# Altium footprint library BD9D300MUV-E2.PcbLib: 3 footprints
Each footprint in its own frame and in the unit in brackets; x right, y up, seen from the top. Pads: shape width x height; smd on the part's side, far side on the other; paste and mask are expansions set on the pad; w line width, h text height; cw(c..) or ccw(c..) is an arc to the next point about the centre after c.
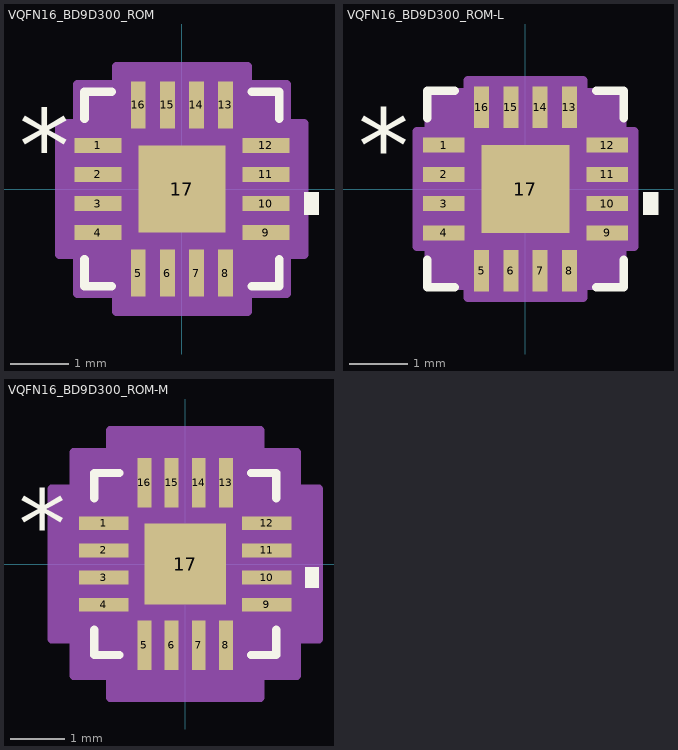
[diagram p0: the footprints below, top view; thin cyan lines are the x and y axes]

## VQFN16_BD9D300_ROM [mil]
pads (17):
  rect 32x10 smd paste+0 mask+0: 1(-57,29.54) 2(-57,9.85) 3(-57,-9.85) 4(-57,-29.54) 9(57,-29.54) 10(57,-9.85) 11(57,9.85) 12(57,29.54)
  rect 10x32 smd paste+0 mask+0: 5(-29.54,-57) 6(-9.85,-57) 7(9.85,-57) 8(29.54,-57) 13(29.54,57) 14(9.85,57) 15(-9.85,57) 16(-29.54,57)
  rect 59x59 smd paste+0 mask+0: 17(0,0)
Top Overlay:
  region: 83,-2.35 93,-2.35 93,-17.34 83,-17.34
  lines w6: -66,-47.63 -66,-66 -47.63,-66 ; -66,47.63 -66,66 -47.63,66 ; 47.63,-66 66,-66 66,-47.63 ; 47.63,66 66,66 66,47.63
  text "*" at -110.5,4.54 h50
Mechanical 13:
  lines w1: -61,11 -11,61 ; -61,-35.53 -61,-23.54 ; -61,-35.53 -61,-23.54 ; -61,-35.53 -61,-35.53 ; -61,-23.54 -61,-23.54 ; -61,-15.85 -61,-3.85 ; -61,-15.85 -61,-3.85 ; -61,-15.85 -61,-15.85 ; -61,-3.85 -61,-3.85 ; -61,3.85 -61,15.85 ; -61,3.85 -61,15.85 ; -61,3.85 -61,3.85 ; -61,15.85 -61,15.85 ; -61,23.54 -61,35.53 ; -61,23.54 -61,35.53 ; -61,23.54 -61,23.54 ; -61,35.53 -61,35.53 ; -35.53,-61 -23.54,-61 ; -35.53,-61 -35.53,-61 ; -35.53,-61 -23.54,-61 ; -35.53,61 -23.54,61 ; -35.53,61 -23.54,61 ; -35.53,61 -35.53,61 ; -23.54,-61 -23.54,-61 ; -23.54,61 -23.54,61 ; -15.85,-61 -3.85,-61 ; -15.85,-61 -15.85,-61 ; -15.85,-61 -3.85,-61 ; -15.85,61 -3.85,61 ; -15.85,61 -3.85,61 ; -15.85,61 -15.85,61 ; -3.85,-61 -3.85,-61 ; -3.85,61 -3.85,61 ; 3.85,-61 15.85,-61 ; 3.85,-61 3.85,-61 ; 3.85,-61 15.85,-61 ; 3.85,61 15.85,61 ; 3.85,61 15.85,61 ; 3.85,61 3.85,61 ; 15.85,-61 15.85,-61 ; 15.85,61 15.85,61 ; 23.54,-61 35.53,-61 ; 23.54,-61 23.54,-61 ; 23.54,-61 35.53,-61 ; 23.54,61 35.53,61 ; 23.54,61 35.53,61 ; 23.54,61 23.54,61 ; 35.53,-61 35.53,-61 ; 35.53,61 35.53,61 ; 61,-35.53 61,-23.54 ; 61,-35.53 61,-35.53 ; 61,-35.53 61,-23.54 ; 61,-23.54 61,-23.54 ; 61,-15.85 61,-3.85 ; 61,-15.85 61,-15.85 ; 61,-15.85 61,-3.85 ; 61,-3.85 61,-3.85 ; 61,3.85 61,15.85 ; 61,3.85 61,3.85 ; 61,3.85 61,15.85 ; 61,15.85 61,15.85 ; 61,23.54 61,35.53 ; 61,23.54 61,23.54 ; 61,23.54 61,35.53 ; 61,35.53 61,35.53 ; -61,-61 61,-61 61,61 -61,61 -61,-61
  text "*" at -28.5,4.54 h50
Mechanical 15:
  region: -44.53,-71 -71,-71 -71,-44.53 -83,-44.53 -83,44.53 -71,44.53 -71,71 -44.53,71 -44.53,83 44.53,83 44.53,71 71,71 71,44.53 83,44.53 83,-44.53 71,-44.53 71,-71 44.53,-71 44.53,-83 -44.53,-83
  lines w6: -83,-44.53 -71,-44.53 -71,-71 -44.53,-71 -44.53,-83 44.53,-83 44.53,-71 71,-71 71,-44.53 83,-44.53 83,44.53 71,44.53 71,71 44.53,71 44.53,83 -44.53,83 -44.53,71 -71,71 -71,44.53 -83,44.53 -83,-44.53
3D body "VQFN16_BD9D300_ROM.step": height 39.09, standoff 0, extent -60.98,-60.98 60.98,60.98

## VQFN16_BD9D300_ROM-L [mil]
pads (17):
  rect 28x10 smd paste+0 mask+0: 1(-55,29.54) 2(-55,9.85) 3(-55,-9.85) 4(-55,-29.54) 9(55,-29.54) 10(55,-9.85) 11(55,9.85) 12(55,29.54)
  rect 10x28 smd paste+0 mask+0: 5(-29.54,-55) 6(-9.85,-55) 7(9.85,-55) 8(29.54,-55) 13(29.54,55) 14(9.85,55) 15(-9.85,55) 16(-29.54,55)
  rect 59x59 smd paste+0 mask+0: 17(0,0)
Top Overlay:
  region: 79,-2.35 89,-2.35 89,-17.34 79,-17.34
  lines w6: -66,-47.63 -66,-66 -47.63,-66 ; -66,47.63 -66,66 -47.63,66 ; 47.63,-66 66,-66 66,-47.63 ; 47.63,66 66,66 66,47.63
  text "*" at -112.5,4.54 h50
Mechanical 13:
  lines w1: -61,11 -11,61 ; -61,-35.53 -61,-23.54 ; -61,-35.53 -61,-23.54 ; -61,-35.53 -61,-35.53 ; -61,-23.54 -61,-23.54 ; -61,-15.85 -61,-3.85 ; -61,-15.85 -61,-3.85 ; -61,-15.85 -61,-15.85 ; -61,-3.85 -61,-3.85 ; -61,3.85 -61,15.85 ; -61,3.85 -61,15.85 ; -61,3.85 -61,3.85 ; -61,15.85 -61,15.85 ; -61,23.54 -61,35.53 ; -61,23.54 -61,35.53 ; -61,23.54 -61,23.54 ; -61,35.53 -61,35.53 ; -35.53,-61 -23.54,-61 ; -35.53,-61 -35.53,-61 ; -35.53,-61 -23.54,-61 ; -35.53,61 -23.54,61 ; -35.53,61 -23.54,61 ; -35.53,61 -35.53,61 ; -23.54,-61 -23.54,-61 ; -23.54,61 -23.54,61 ; -15.85,-61 -3.85,-61 ; -15.85,-61 -15.85,-61 ; -15.85,-61 -3.85,-61 ; -15.85,61 -3.85,61 ; -15.85,61 -3.85,61 ; -15.85,61 -15.85,61 ; -3.85,-61 -3.85,-61 ; -3.85,61 -3.85,61 ; 3.85,-61 15.85,-61 ; 3.85,-61 3.85,-61 ; 3.85,-61 15.85,-61 ; 3.85,61 15.85,61 ; 3.85,61 15.85,61 ; 3.85,61 3.85,61 ; 15.85,-61 15.85,-61 ; 15.85,61 15.85,61 ; 23.54,-61 35.53,-61 ; 23.54,-61 23.54,-61 ; 23.54,-61 35.53,-61 ; 23.54,61 35.53,61 ; 23.54,61 35.53,61 ; 23.54,61 23.54,61 ; 35.53,-61 35.53,-61 ; 35.53,61 35.53,61 ; 61,-35.53 61,-23.54 ; 61,-35.53 61,-35.53 ; 61,-35.53 61,-23.54 ; 61,-23.54 61,-23.54 ; 61,-15.85 61,-3.85 ; 61,-15.85 61,-15.85 ; 61,-15.85 61,-3.85 ; 61,-3.85 61,-3.85 ; 61,3.85 61,15.85 ; 61,3.85 61,3.85 ; 61,3.85 61,15.85 ; 61,15.85 61,15.85 ; 61,23.54 61,35.53 ; 61,23.54 61,23.54 ; 61,23.54 61,35.53 ; 61,35.53 61,35.53 ; -61,-61 61,-61 61,61 -61,61 -61,-61
  text "*" at -22.5,4.54 h50
Mechanical 15:
  region: -38.53,-65 -65,-65 -65,-38.53 -73,-38.53 -73,38.53 -65,38.53 -65,65 -38.53,65 -38.53,73 38.53,73 38.53,65 65,65 65,38.53 73,38.53 73,-38.53 65,-38.53 65,-65 38.53,-65 38.53,-73 -38.53,-73
  lines w6: -73,-38.53 -65,-38.53 -65,-65 -38.53,-65 -38.53,-73 38.53,-73 38.53,-65 65,-65 65,-38.53 73,-38.53 73,38.53 65,38.53 65,65 38.53,65 38.53,73 -38.53,73 -38.53,65 -65,65 -65,38.53 -73,38.53 -73,-38.53
3D body "VQFN16_BD9D300_ROM.step": height 39.09, standoff 0, extent -60.98,-60.98 60.98,60.98

## VQFN16_BD9D300_ROM-M [mil]
pads (17):
  rect 36x10 smd paste+0 mask+0: 1(-59,29.54) 2(-59,9.85) 3(-59,-9.85) 4(-59,-29.54) 9(59,-29.54) 10(59,-9.85) 11(59,9.85) 12(59,29.54)
  rect 10x36 smd paste+0 mask+0: 5(-29.54,-59) 6(-9.85,-59) 7(9.85,-59) 8(29.54,-59) 13(29.54,59) 14(9.85,59) 15(-9.85,59) 16(-29.54,59)
  rect 59x59 smd paste+0 mask+0: 17(0,0)
Top Overlay:
  region: 87,-2.35 97,-2.35 97,-17.34 87,-17.34
  lines w6: -66,-47.63 -66,-66 -47.63,-66 ; -66,47.63 -66,66 -47.63,66 ; 47.63,-66 66,-66 66,-47.63 ; 47.63,66 66,66 66,47.63
  text "*" at -120.5,4.54 h50
Mechanical 13:
  lines w1: -61,11 -11,61 ; -61,-35.53 -61,-23.54 ; -61,-35.53 -61,-23.54 ; -61,-35.53 -61,-35.53 ; -61,-23.54 -61,-23.54 ; -61,-15.85 -61,-3.85 ; -61,-15.85 -61,-3.85 ; -61,-15.85 -61,-15.85 ; -61,-3.85 -61,-3.85 ; -61,3.85 -61,15.85 ; -61,3.85 -61,15.85 ; -61,3.85 -61,3.85 ; -61,15.85 -61,15.85 ; -61,23.54 -61,35.53 ; -61,23.54 -61,35.53 ; -61,23.54 -61,23.54 ; -61,35.53 -61,35.53 ; -35.53,-61 -23.54,-61 ; -35.53,-61 -35.53,-61 ; -35.53,-61 -23.54,-61 ; -35.53,61 -23.54,61 ; -35.53,61 -23.54,61 ; -35.53,61 -35.53,61 ; -23.54,-61 -23.54,-61 ; -23.54,61 -23.54,61 ; -15.85,-61 -3.85,-61 ; -15.85,-61 -15.85,-61 ; -15.85,-61 -3.85,-61 ; -15.85,61 -3.85,61 ; -15.85,61 -3.85,61 ; -15.85,61 -15.85,61 ; -3.85,-61 -3.85,-61 ; -3.85,61 -3.85,61 ; 3.85,-61 15.85,-61 ; 3.85,-61 3.85,-61 ; 3.85,-61 15.85,-61 ; 3.85,61 15.85,61 ; 3.85,61 15.85,61 ; 3.85,61 3.85,61 ; 15.85,-61 15.85,-61 ; 15.85,61 15.85,61 ; 23.54,-61 35.53,-61 ; 23.54,-61 23.54,-61 ; 23.54,-61 35.53,-61 ; 23.54,61 35.53,61 ; 23.54,61 35.53,61 ; 23.54,61 23.54,61 ; 35.53,-61 35.53,-61 ; 35.53,61 35.53,61 ; 61,-35.53 61,-23.54 ; 61,-35.53 61,-35.53 ; 61,-35.53 61,-23.54 ; 61,-23.54 61,-23.54 ; 61,-15.85 61,-3.85 ; 61,-15.85 61,-15.85 ; 61,-15.85 61,-3.85 ; 61,-3.85 61,-3.85 ; 61,3.85 61,15.85 ; 61,3.85 61,3.85 ; 61,3.85 61,15.85 ; 61,15.85 61,15.85 ; 61,23.54 61,35.53 ; 61,23.54 61,23.54 ; 61,23.54 61,35.53 ; 61,35.53 61,35.53 ; -61,-61 61,-61 61,61 -61,61 -61,-61
  text "*" at -22.5,4.54 h50
Mechanical 15:
  region: -54.53,-81 -81,-81 -81,-54.53 -97,-54.53 -97,54.53 -81,54.53 -81,81 -54.53,81 -54.53,97 54.53,97 54.53,81 81,81 81,54.53 97,54.53 97,-54.53 81,-54.53 81,-81 54.53,-81 54.53,-97 -54.53,-97
  lines w6: -97,-54.53 -81,-54.53 -81,-81 -54.53,-81 -54.53,-97 54.53,-97 54.53,-81 81,-81 81,-54.53 97,-54.53 97,54.53 81,54.53 81,81 54.53,81 54.53,97 -54.53,97 -54.53,81 -81,81 -81,54.53 -97,54.53 -97,-54.53
3D body "VQFN16_BD9D300_ROM.step": height 39.09, standoff 0, extent -60.98,-60.98 60.98,60.98